# Altium schematic symbol library RGB.SchLib: 1 symbol
Pins are listed as number, name and electrical type; pins without a type are passive.

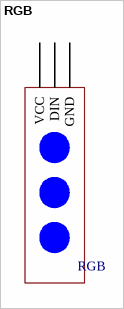
[diagram p0: symbol RGB]

## RGB
designator RGB  (value not drawn)
pins: 1 GND, 2 DIN, 3 VCC